# EAGLE library part PCA9675 (library PortExpanders)
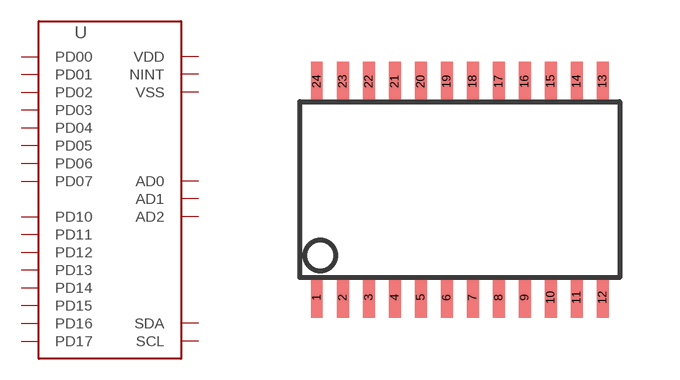
[diagram p1: symbol with the pads of TSSOP24-4.4; footprint TSSOP24-4.4]

Designator prefix -

## PCA9675TSSOP24  [TSSOP24-4.4]
1  NINT
2  AD1
3  AD2
4  PD00
5  PD01
6  PD02
7  PD03
8  PD04
9  PD05
10  PD06
11  PD07
12  VSS
13  PD10
14  PD11
15  PD12
16  PD13
17  PD14
18  PD15
19  PD16
20  PD17
21  AD0
22  SCL
23  SDA
24  VDD

## Footprint TSSOP24-4.4 (pad centres in mm)
smd 0.3 x 1: 1 -3.575,-2.7; 2 -2.925,-2.7; 3 -2.275,-2.7; 4 -1.625,-2.7; 5 -0.975,-2.7; 6 -0.325,-2.7; 7 0.325,-2.7; 8 0.975,-2.7; 9 1.625,-2.7; 10 2.275,-2.7; 11 2.925,-2.7; 12 3.575,-2.7; 13 3.575,2.7; 14 2.925,2.7; 15 2.275,2.7; 16 1.625,2.7; 17 0.975,2.7; 18 0.325,2.7; 19 -0.325,2.7; 20 -0.975,2.7; 21 -1.625,2.7; 22 -2.275,2.7; 23 -2.925,2.7; 24 -3.575,2.7